# Altium integrated library Lattice Semiconductor ispMACH 4000B.IntLib: 180 symbols (part 1 of 28)
Pins are listed as number, name and electrical type; pins without a type are passive.

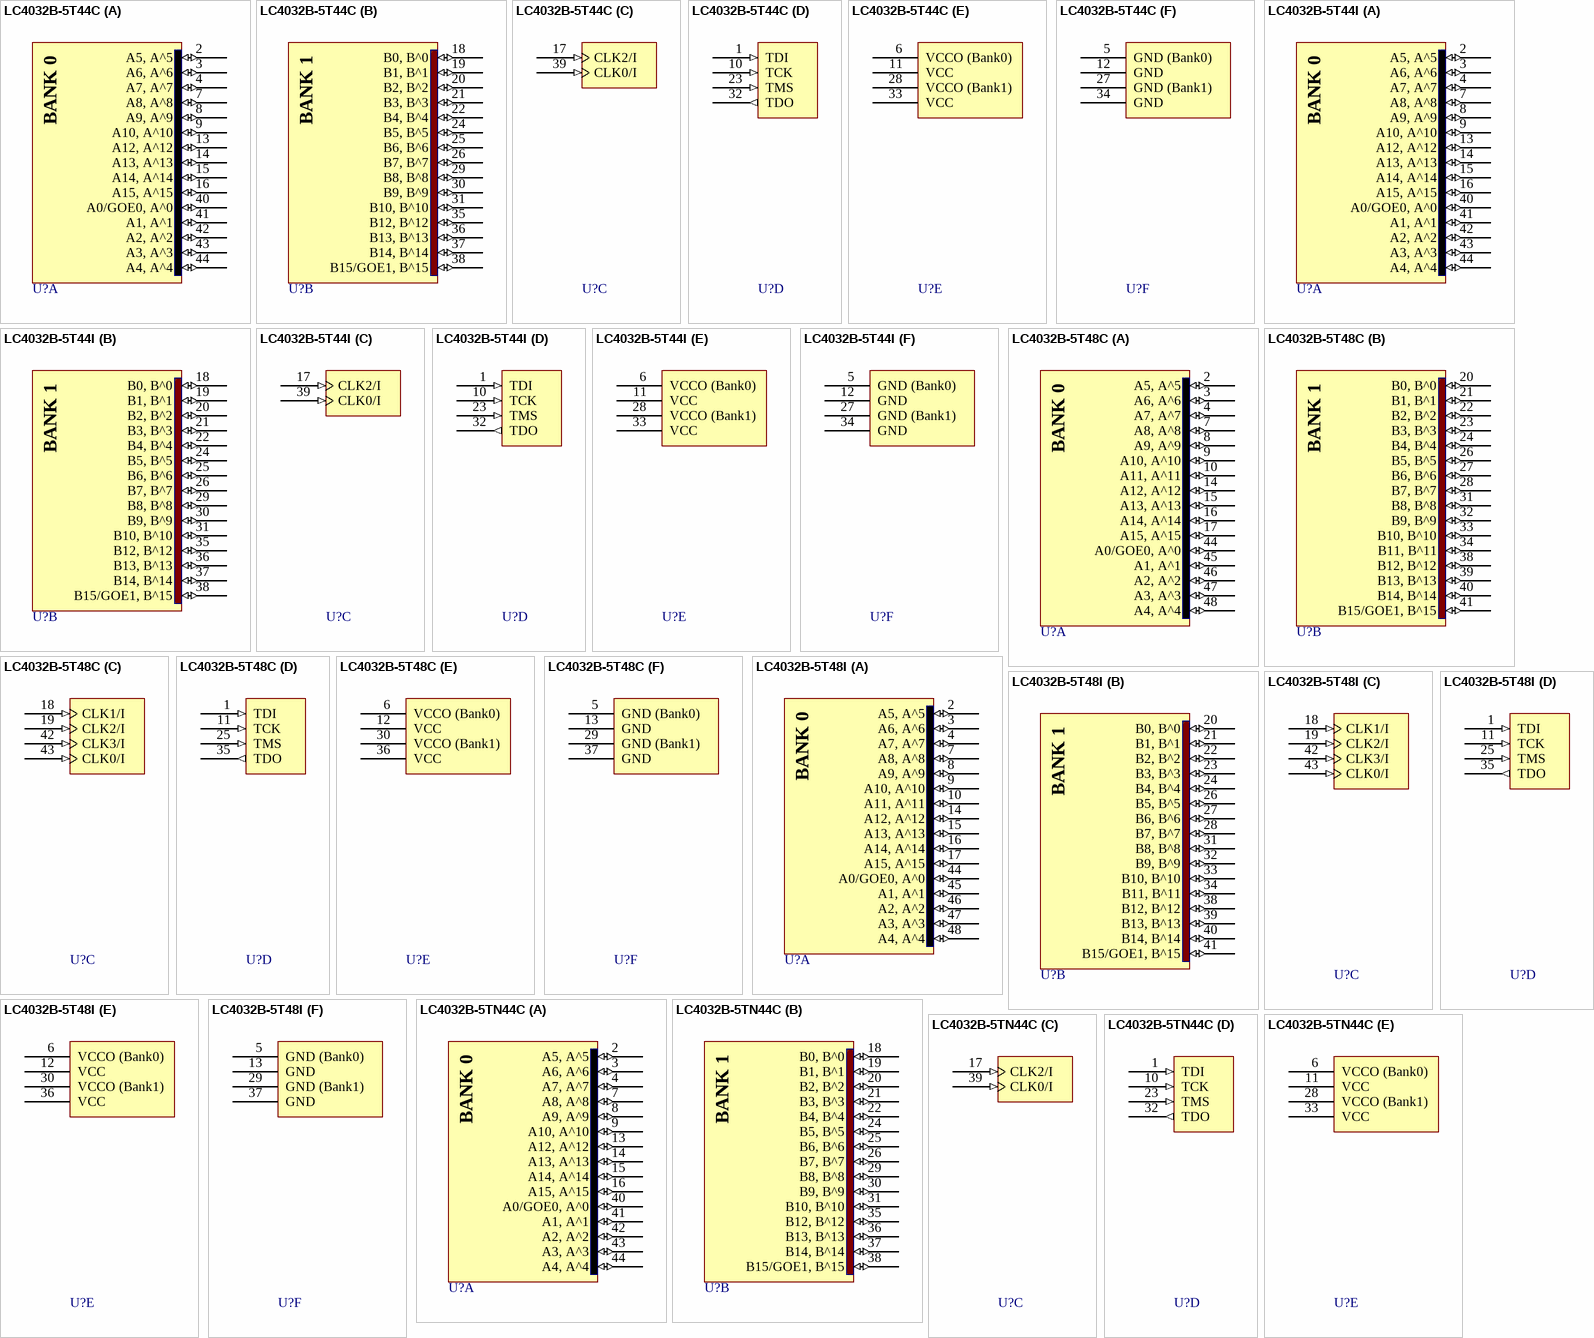
[diagram p0: symbols LC4032B-5T44C to LC4032B-5TN44C]

## LC4032B-5T44C
designator U?
ispMACH 4032 SuperFAST High Density PLD, 2.5 V, 30 User I/Os, 44-Pin TQFP, 5.0 ns, Commercial Grade; DatasheetVersion: ver22.3, Mar-2007; PackageVersion: ver01.2 Feb-2007; PackageReference: TQFP44(1mm); PackageDescription: 44-Pin Thin Quad Flat Pack 1.0 mm Thick (TQFP44); ComponentLink1Description: Manufacturer URL; ComponentLink1URL: http://www.latticesemi.com/; ComponentLink2Description: Datasheet; ComponentLink2URL: http://www.latticesemi.com/dynamic/view_document.cfm?document_id=3646
footprint TQFP44(1mm)_N (Thin QFP, 44-Leads, Body 10x10mm, Pitch 0.8mm, IPC Medium Density)
footprint TQFP44(1mm)_L (Thin QFP, 44-Leads, Body 10x10mm, Pitch 0.8mm, IPC High Density)
footprint TQFP44(1mm)_M (Thin QFP, 44-Leads, Body 10x10mm, Pitch 0.8mm, IPC Low Density)
part A pins: 2 A5, A^5 (io) "General purpose I/O.", 3 A6, A^6 (io) "General purpose I/O.", 4 A7, A^7 (io) "General purpose I/O.", 7 A8, A^8 (io) "General purpose I/O.", 8 A9, A^9 (io) "General purpose I/O.", 9 A10, A^10 (io) "General purpose I/O.", 13 A12, A^12 (io) "General purpose I/O.", 14 A13, A^13 (io) "General purpose I/O.", 15 A14, A^14 (io) "General purpose I/O.", 16 A15, A^15 (io) "General purpose I/O.", 40 A0/GOE0, A^0 (io) "Either Global Output Enable Input or general I/O.", 41 A1, A^1 (io) "General purpose I/O.", 42 A2, A^2 (io) "General purpose I/O.", 43 A3, A^3 (io) "General purpose I/O.", 44 A4, A^4 (io) "General purpose I/O."
part B pins: 18 B0, B^0 (io) "General purpose I/O.", 19 B1, B^1 (io) "General purpose I/O.", 20 B2, B^2 (io) "General purpose I/O.", 21 B3, B^3 (io) "General purpose I/O.", 22 B4, B^4 (io) "General purpose I/O.", 24 B5, B^5 (io) "General purpose I/O.", 25 B6, B^6 (io) "General purpose I/O.", 26 B7, B^7 (io) "General purpose I/O.", 29 B8, B^8 (io) "General purpose I/O.", 30 B9, B^9 (io) "General purpose I/O.", 31 B10, B^10 (io) "General purpose I/O.", 35 B12, B^12 (io) "General purpose I/O.", 36 B13, B^13 (io) "General purpose I/O.", 37 B14, B^14 (io) "General purpose I/O.", 38 B15/GOE1, B^15 (io) "Either Global Output Enable Input or general I/O."
part C pins: 17 CLK2/I (in) "Either CLK input or input.", 39 CLK0/I (in) "Either CLK input or input."
part D pins: 1 TDI (in) "Test Data Input. Loads data into device using 1149.1 state machine.", 10 TCK (in) "Test Clock Input for 1149.1 state machine.", 23 TMS (in) "Test Mode Select Input to control 1149.1 state machine.", 32 TDO (out) "Test Data Output. Shifts data out of device using 1149.1."
part E pins: 6 VCCO (Bank0) (power) "Power supply pin for I/O bank.", 11 VCC (power) "Power supply for logic core and JTAG port.", 28 VCCO (Bank1) (power) "Power supply pin for I/O bank.", 33 VCC (power) "Power supply for logic core and JTAG port."
part F pins: 5 GND (Bank0) (power) "I/O Ground", 12 GND (power) "Ground", 27 GND (Bank1) (power) "I/O Ground", 34 GND (power) "Ground"
part A text: BANK 0
part B text: BANK 1

## LC4032B-5T44I
designator U?
ispMACH 4032 SuperFAST High Density PLD, 2.5 V, 30 User I/Os, 44-Pin TQFP, 5.0 ns, Industrial Grade; DatasheetVersion: ver22.3, Mar-2007; PackageVersion: ver01.2 Feb-2007; PackageReference: TQFP44(1mm); PackageDescription: 44-Pin Thin Quad Flat Pack 1.0 mm Thick (TQFP44); ComponentLink1Description: Manufacturer URL; ComponentLink1URL: http://www.latticesemi.com/; ComponentLink2Description: Datasheet; ComponentLink2URL: http://www.latticesemi.com/dynamic/view_document.cfm?document_id=3646
footprint TQFP44(1mm)_N (Thin QFP, 44-Leads, Body 10x10mm, Pitch 0.8mm, IPC Medium Density)
footprint TQFP44(1mm)_L (Thin QFP, 44-Leads, Body 10x10mm, Pitch 0.8mm, IPC High Density)
footprint TQFP44(1mm)_M (Thin QFP, 44-Leads, Body 10x10mm, Pitch 0.8mm, IPC Low Density)
part A pins: 2 A5, A^5 (io) "General purpose I/O.", 3 A6, A^6 (io) "General purpose I/O.", 4 A7, A^7 (io) "General purpose I/O.", 7 A8, A^8 (io) "General purpose I/O.", 8 A9, A^9 (io) "General purpose I/O.", 9 A10, A^10 (io) "General purpose I/O.", 13 A12, A^12 (io) "General purpose I/O.", 14 A13, A^13 (io) "General purpose I/O.", 15 A14, A^14 (io) "General purpose I/O.", 16 A15, A^15 (io) "General purpose I/O.", 40 A0/GOE0, A^0 (io) "Either Global Output Enable Input or general I/O.", 41 A1, A^1 (io) "General purpose I/O.", 42 A2, A^2 (io) "General purpose I/O.", 43 A3, A^3 (io) "General purpose I/O.", 44 A4, A^4 (io) "General purpose I/O."
part B pins: 18 B0, B^0 (io) "General purpose I/O.", 19 B1, B^1 (io) "General purpose I/O.", 20 B2, B^2 (io) "General purpose I/O.", 21 B3, B^3 (io) "General purpose I/O.", 22 B4, B^4 (io) "General purpose I/O.", 24 B5, B^5 (io) "General purpose I/O.", 25 B6, B^6 (io) "General purpose I/O.", 26 B7, B^7 (io) "General purpose I/O.", 29 B8, B^8 (io) "General purpose I/O.", 30 B9, B^9 (io) "General purpose I/O.", 31 B10, B^10 (io) "General purpose I/O.", 35 B12, B^12 (io) "General purpose I/O.", 36 B13, B^13 (io) "General purpose I/O.", 37 B14, B^14 (io) "General purpose I/O.", 38 B15/GOE1, B^15 (io) "Either Global Output Enable Input or general I/O."
part C pins: 17 CLK2/I (in) "Either CLK input or input.", 39 CLK0/I (in) "Either CLK input or input."
part D pins: 1 TDI (in) "Test Data Input. Loads data into device using 1149.1 state machine.", 10 TCK (in) "Test Clock Input for 1149.1 state machine.", 23 TMS (in) "Test Mode Select Input to control 1149.1 state machine.", 32 TDO (out) "Test Data Output. Shifts data out of device using 1149.1."
part E pins: 6 VCCO (Bank0) (power) "Power supply pin for I/O bank.", 11 VCC (power) "Power supply for logic core and JTAG port.", 28 VCCO (Bank1) (power) "Power supply pin for I/O bank.", 33 VCC (power) "Power supply for logic core and JTAG port."
part F pins: 5 GND (Bank0) (power) "I/O Ground", 12 GND (power) "Ground", 27 GND (Bank1) (power) "I/O Ground", 34 GND (power) "Ground"
part A text: BANK 0
part B text: BANK 1

## LC4032B-5T48C
designator U?
ispMACH 4032 SuperFAST High Density PLD, 2.5 V, 32 User I/Os, 48-Pin TQFP, 5.0 ns, Commercial Grade; DatasheetVersion: ver22.3, Mar-2007; PackageVersion: ver02.6, Nov-2010; PackageReference: TQFP48(1mm); PackageDescription: 48-Pin Thin Quad Flat Pack 1.0 mm Thick (TQFP48); ComponentLink1Description: Manufacturer URL; ComponentLink1URL: http://www.latticesemi.com/; ComponentLink2Description: Datasheet; ComponentLink2URL: http://www.latticesemi.com/dynamic/view_document.cfm?document_id=3646
footprint TQFP48(1mm)_N (Thin QFP, 48-Leads, Body 7x7mm, Pitch 0.5mm, IPC Medium Density)
footprint TQFP48(1mm)_L (Thin QFP, 48-Leads, Body 7x7mm, Pitch 0.5mm, IPC High Density)
footprint TQFP48(1mm)_M (Thin QFP, 48-Leads, Body 7x7mm, Pitch 0.5mm, IPC Low Density)
part A pins: 2 A5, A^5 (io) "General purpose I/O.", 3 A6, A^6 (io) "General purpose I/O.", 4 A7, A^7 (io) "General purpose I/O.", 7 A8, A^8 (io) "General purpose I/O.", 8 A9, A^9 (io) "General purpose I/O.", 9 A10, A^10 (io) "General purpose I/O.", 10 A11, A^11 (io) "General purpose I/O.", 14 A12, A^12 (io) "General purpose I/O.", 15 A13, A^13 (io) "General purpose I/O.", 16 A14, A^14 (io) "General purpose I/O.", 17 A15, A^15 (io) "General purpose I/O.", 44 A0/GOE0, A^0 (io) "Either Global Output Enable Input or general I/O.", 45 A1, A^1 (io) "General purpose I/O.", 46 A2, A^2 (io) "General purpose I/O.", 47 A3, A^3 (io) "General purpose I/O.", 48 A4, A^4 (io) "General purpose I/O."
part B pins: 20 B0, B^0 (io) "General purpose I/O.", 21 B1, B^1 (io) "General purpose I/O.", 22 B2, B^2 (io) "General purpose I/O.", 23 B3, B^3 (io) "General purpose I/O.", 24 B4, B^4 (io) "General purpose I/O.", 26 B5, B^5 (io) "General purpose I/O.", 27 B6, B^6 (io) "General purpose I/O.", 28 B7, B^7 (io) "General purpose I/O.", 31 B8, B^8 (io) "General purpose I/O.", 32 B9, B^9 (io) "General purpose I/O.", 33 B10, B^10 (io) "General purpose I/O.", 34 B11, B^11 (io) "General purpose I/O.", 38 B12, B^12 (io) "General purpose I/O.", 39 B13, B^13 (io) "General purpose I/O.", 40 B14, B^14 (io) "General purpose I/O.", 41 B15/GOE1, B^15 (io) "Either Global Output Enable Input or general I/O."
part C pins: 18 CLK1/I (in) "Either CLK input or input.", 19 CLK2/I (in) "Either CLK input or input.", 42 CLK3/I (in) "Either CLK input or input.", 43 CLK0/I (in) "Either CLK input or input."
part D pins: 1 TDI (in) "Test Data Input. Loads data into device using 1149.1 state machine.", 11 TCK (in) "Test Clock Input for 1149.1 state machine.", 25 TMS (in) "Test Mode Select Input to control 1149.1 state machine.", 35 TDO (out) "Test Data Output. Shifts data out of device using 1149.1."
part E pins: 6 VCCO (Bank0) (power) "Power supply pin for I/O bank.", 12 VCC (power) "Power supply for logic core and JTAG port.", 30 VCCO (Bank1) (power) "Power supply pin for I/O bank.", 36 VCC (power) "Power supply for logic core and JTAG port."
part F pins: 5 GND (Bank0) (power) "I/O Ground", 13 GND (power) "Ground", 29 GND (Bank1) (power) "I/O Ground", 37 GND (power) "Ground"
part A text: BANK 0
part B text: BANK 1

## LC4032B-5T48I
designator U?
ispMACH 4032 SuperFAST High Density PLD, 2.5 V, 32 User I/Os, 48-Pin TQFP, 5.0 ns, Industrial Grade; DatasheetVersion: ver22.3, Mar-2007; PackageVersion: ver02.6, Nov-2010; PackageReference: TQFP48(1mm); PackageDescription: 48-Pin Thin Quad Flat Pack 1.0 mm Thick (TQFP48); ComponentLink1Description: Manufacturer URL; ComponentLink1URL: http://www.latticesemi.com/; ComponentLink2Description: Datasheet; ComponentLink2URL: http://www.latticesemi.com/dynamic/view_document.cfm?document_id=3646
footprint TQFP48(1mm)_N (Thin QFP, 48-Leads, Body 7x7mm, Pitch 0.5mm, IPC Medium Density)
footprint TQFP48(1mm)_L (Thin QFP, 48-Leads, Body 7x7mm, Pitch 0.5mm, IPC High Density)
footprint TQFP48(1mm)_M (Thin QFP, 48-Leads, Body 7x7mm, Pitch 0.5mm, IPC Low Density)
part A pins: 2 A5, A^5 (io) "General purpose I/O.", 3 A6, A^6 (io) "General purpose I/O.", 4 A7, A^7 (io) "General purpose I/O.", 7 A8, A^8 (io) "General purpose I/O.", 8 A9, A^9 (io) "General purpose I/O.", 9 A10, A^10 (io) "General purpose I/O.", 10 A11, A^11 (io) "General purpose I/O.", 14 A12, A^12 (io) "General purpose I/O.", 15 A13, A^13 (io) "General purpose I/O.", 16 A14, A^14 (io) "General purpose I/O.", 17 A15, A^15 (io) "General purpose I/O.", 44 A0/GOE0, A^0 (io) "Either Global Output Enable Input or general I/O.", 45 A1, A^1 (io) "General purpose I/O.", 46 A2, A^2 (io) "General purpose I/O.", 47 A3, A^3 (io) "General purpose I/O.", 48 A4, A^4 (io) "General purpose I/O."
part B pins: 20 B0, B^0 (io) "General purpose I/O.", 21 B1, B^1 (io) "General purpose I/O.", 22 B2, B^2 (io) "General purpose I/O.", 23 B3, B^3 (io) "General purpose I/O.", 24 B4, B^4 (io) "General purpose I/O.", 26 B5, B^5 (io) "General purpose I/O.", 27 B6, B^6 (io) "General purpose I/O.", 28 B7, B^7 (io) "General purpose I/O.", 31 B8, B^8 (io) "General purpose I/O.", 32 B9, B^9 (io) "General purpose I/O.", 33 B10, B^10 (io) "General purpose I/O.", 34 B11, B^11 (io) "General purpose I/O.", 38 B12, B^12 (io) "General purpose I/O.", 39 B13, B^13 (io) "General purpose I/O.", 40 B14, B^14 (io) "General purpose I/O.", 41 B15/GOE1, B^15 (io) "Either Global Output Enable Input or general I/O."
part C pins: 18 CLK1/I (in) "Either CLK input or input.", 19 CLK2/I (in) "Either CLK input or input.", 42 CLK3/I (in) "Either CLK input or input.", 43 CLK0/I (in) "Either CLK input or input."
part D pins: 1 TDI (in) "Test Data Input. Loads data into device using 1149.1 state machine.", 11 TCK (in) "Test Clock Input for 1149.1 state machine.", 25 TMS (in) "Test Mode Select Input to control 1149.1 state machine.", 35 TDO (out) "Test Data Output. Shifts data out of device using 1149.1."
part E pins: 6 VCCO (Bank0) (power) "Power supply pin for I/O bank.", 12 VCC (power) "Power supply for logic core and JTAG port.", 30 VCCO (Bank1) (power) "Power supply pin for I/O bank.", 36 VCC (power) "Power supply for logic core and JTAG port."
part F pins: 5 GND (Bank0) (power) "I/O Ground", 13 GND (power) "Ground", 29 GND (Bank1) (power) "I/O Ground", 37 GND (power) "Ground"
part A text: BANK 0
part B text: BANK 1

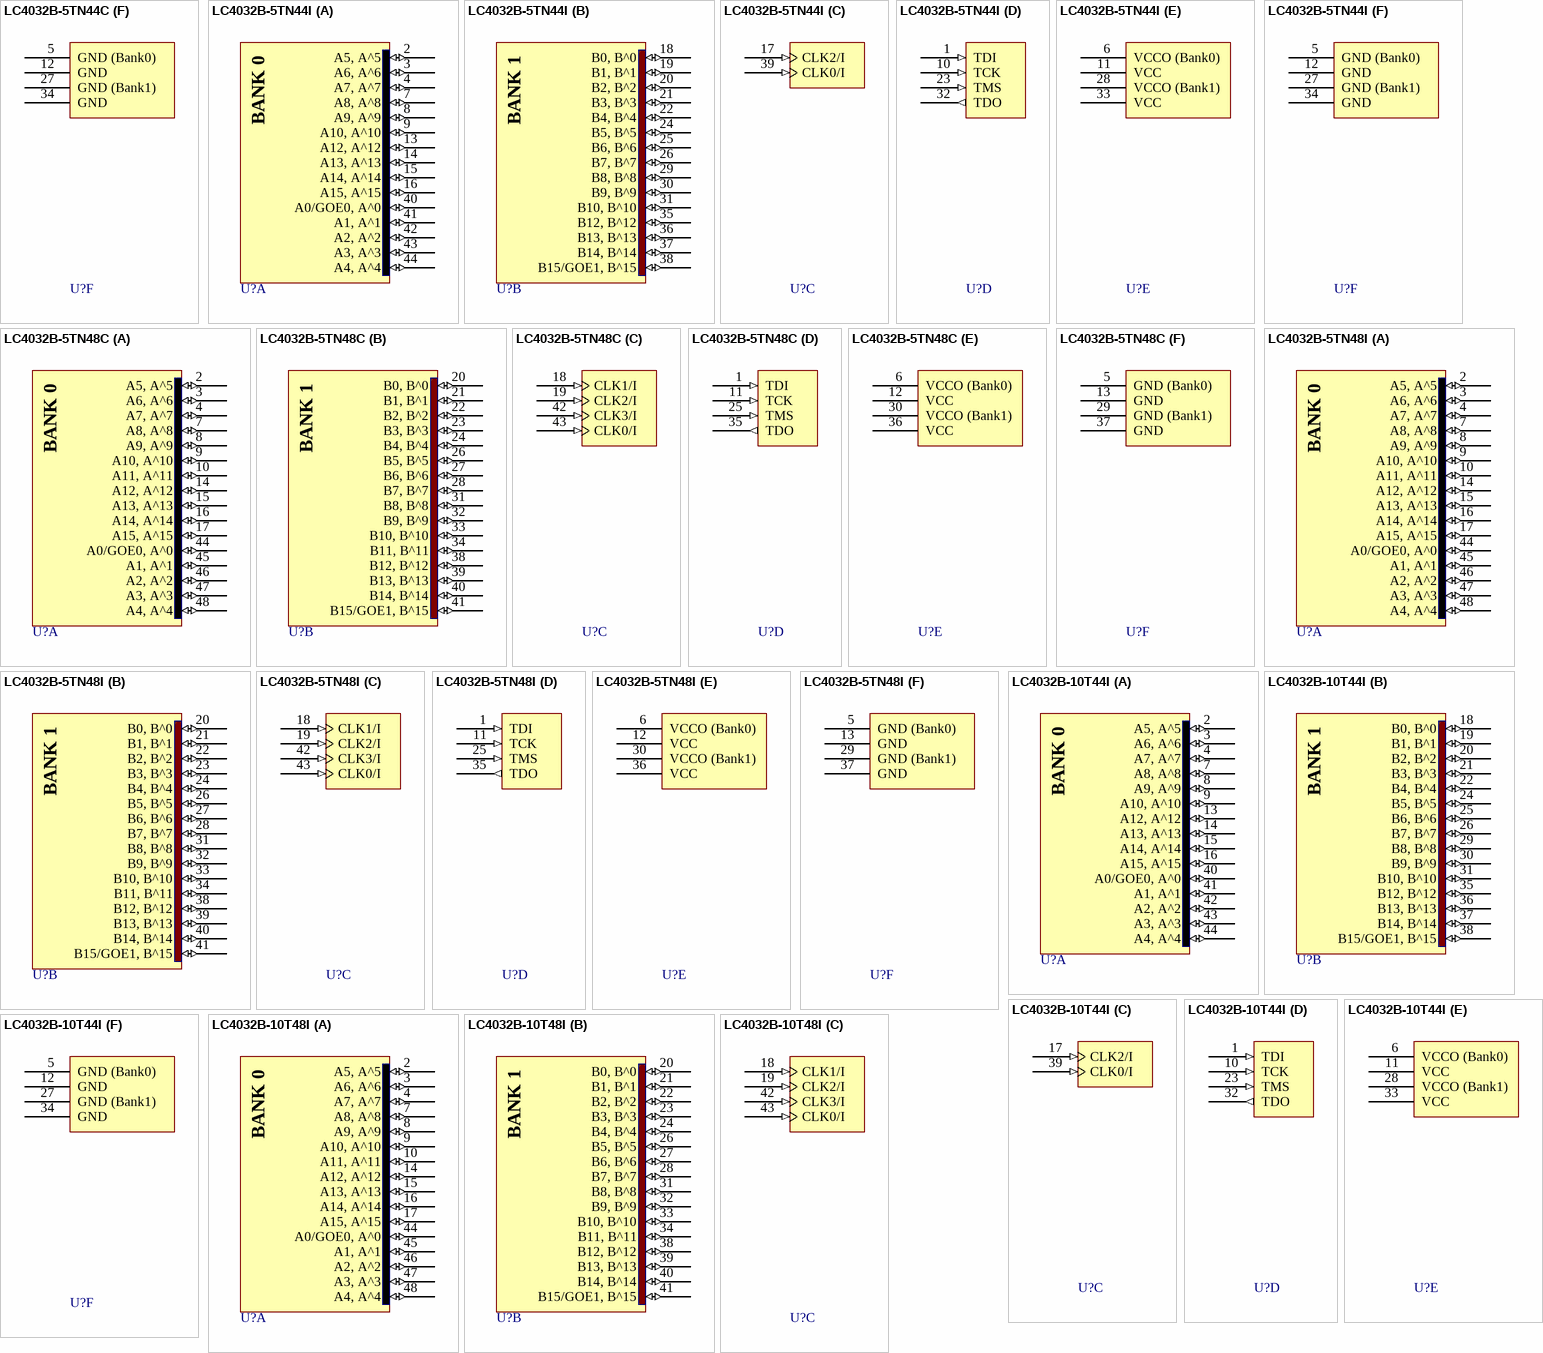
[diagram p1: symbols LC4032B-5TN44C to LC4032B-10T48I]

## LC4032B-5TN44C
designator U?
ispMACH 4032 SuperFAST High Density PLD, 2.5 V, 30 User I/Os, 44-Pin TQFP, 5.0 ns, Commercial Grade, Pb-Free; DatasheetVersion: ver22.3, Mar-2007; PackageVersion: ver01.2 Feb-2007; PackageReference: TQFP44(1mm); PackageDescription: 44-Pin Thin Quad Flat Pack 1.0 mm Thick (TQFP44); ComponentLink1Description: Manufacturer URL; ComponentLink1URL: http://www.latticesemi.com/; ComponentLink2Description: Datasheet; ComponentLink2URL: http://www.latticesemi.com/dynamic/view_document.cfm?document_id=3646
footprint TQFP44(1mm)_N (Thin QFP, 44-Leads, Body 10x10mm, Pitch 0.8mm, IPC Medium Density)
footprint TQFP44(1mm)_L (Thin QFP, 44-Leads, Body 10x10mm, Pitch 0.8mm, IPC High Density)
footprint TQFP44(1mm)_M (Thin QFP, 44-Leads, Body 10x10mm, Pitch 0.8mm, IPC Low Density)
part A pins: 2 A5, A^5 (io) "General purpose I/O.", 3 A6, A^6 (io) "General purpose I/O.", 4 A7, A^7 (io) "General purpose I/O.", 7 A8, A^8 (io) "General purpose I/O.", 8 A9, A^9 (io) "General purpose I/O.", 9 A10, A^10 (io) "General purpose I/O.", 13 A12, A^12 (io) "General purpose I/O.", 14 A13, A^13 (io) "General purpose I/O.", 15 A14, A^14 (io) "General purpose I/O.", 16 A15, A^15 (io) "General purpose I/O.", 40 A0/GOE0, A^0 (io) "Either Global Output Enable Input or general I/O.", 41 A1, A^1 (io) "General purpose I/O.", 42 A2, A^2 (io) "General purpose I/O.", 43 A3, A^3 (io) "General purpose I/O.", 44 A4, A^4 (io) "General purpose I/O."
part B pins: 18 B0, B^0 (io) "General purpose I/O.", 19 B1, B^1 (io) "General purpose I/O.", 20 B2, B^2 (io) "General purpose I/O.", 21 B3, B^3 (io) "General purpose I/O.", 22 B4, B^4 (io) "General purpose I/O.", 24 B5, B^5 (io) "General purpose I/O.", 25 B6, B^6 (io) "General purpose I/O.", 26 B7, B^7 (io) "General purpose I/O.", 29 B8, B^8 (io) "General purpose I/O.", 30 B9, B^9 (io) "General purpose I/O.", 31 B10, B^10 (io) "General purpose I/O.", 35 B12, B^12 (io) "General purpose I/O.", 36 B13, B^13 (io) "General purpose I/O.", 37 B14, B^14 (io) "General purpose I/O.", 38 B15/GOE1, B^15 (io) "Either Global Output Enable Input or general I/O."
part C pins: 17 CLK2/I (in) "Either CLK input or input.", 39 CLK0/I (in) "Either CLK input or input."
part D pins: 1 TDI (in) "Test Data Input. Loads data into device using 1149.1 state machine.", 10 TCK (in) "Test Clock Input for 1149.1 state machine.", 23 TMS (in) "Test Mode Select Input to control 1149.1 state machine.", 32 TDO (out) "Test Data Output. Shifts data out of device using 1149.1."
part E pins: 6 VCCO (Bank0) (power) "Power supply pin for I/O bank.", 11 VCC (power) "Power supply for logic core and JTAG port.", 28 VCCO (Bank1) (power) "Power supply pin for I/O bank.", 33 VCC (power) "Power supply for logic core and JTAG port."
part F pins: 5 GND (Bank0) (power) "I/O Ground", 12 GND (power) "Ground", 27 GND (Bank1) (power) "I/O Ground", 34 GND (power) "Ground"
part A text: BANK 0
part B text: BANK 1

## LC4032B-5TN44I
designator U?
ispMACH 4032 SuperFAST High Density PLD, 2.5 V, 30 User I/Os, 44-Pin TQFP, 2.5 ns, Industrial Grade, Pb-Free; DatasheetVersion: ver22.3, Mar-2007; PackageVersion: ver01.2 Feb-2007; PackageReference: TQFP44(1mm); PackageDescription: 44-Pin Thin Quad Flat Pack 1.0 mm Thick (TQFP44); ComponentLink1Description: Manufacturer URL; ComponentLink1URL: http://www.latticesemi.com/; ComponentLink2Description: Datasheet; ComponentLink2URL: http://www.latticesemi.com/dynamic/view_document.cfm?document_id=3646
footprint TQFP44(1mm)_N (Thin QFP, 44-Leads, Body 10x10mm, Pitch 0.8mm, IPC Medium Density)
footprint TQFP44(1mm)_L (Thin QFP, 44-Leads, Body 10x10mm, Pitch 0.8mm, IPC High Density)
footprint TQFP44(1mm)_M (Thin QFP, 44-Leads, Body 10x10mm, Pitch 0.8mm, IPC Low Density)
part A pins: 2 A5, A^5 (io) "General purpose I/O.", 3 A6, A^6 (io) "General purpose I/O.", 4 A7, A^7 (io) "General purpose I/O.", 7 A8, A^8 (io) "General purpose I/O.", 8 A9, A^9 (io) "General purpose I/O.", 9 A10, A^10 (io) "General purpose I/O.", 13 A12, A^12 (io) "General purpose I/O.", 14 A13, A^13 (io) "General purpose I/O.", 15 A14, A^14 (io) "General purpose I/O.", 16 A15, A^15 (io) "General purpose I/O.", 40 A0/GOE0, A^0 (io) "Either Global Output Enable Input or general I/O.", 41 A1, A^1 (io) "General purpose I/O.", 42 A2, A^2 (io) "General purpose I/O.", 43 A3, A^3 (io) "General purpose I/O.", 44 A4, A^4 (io) "General purpose I/O."
part B pins: 18 B0, B^0 (io) "General purpose I/O.", 19 B1, B^1 (io) "General purpose I/O.", 20 B2, B^2 (io) "General purpose I/O.", 21 B3, B^3 (io) "General purpose I/O.", 22 B4, B^4 (io) "General purpose I/O.", 24 B5, B^5 (io) "General purpose I/O.", 25 B6, B^6 (io) "General purpose I/O.", 26 B7, B^7 (io) "General purpose I/O.", 29 B8, B^8 (io) "General purpose I/O.", 30 B9, B^9 (io) "General purpose I/O.", 31 B10, B^10 (io) "General purpose I/O.", 35 B12, B^12 (io) "General purpose I/O.", 36 B13, B^13 (io) "General purpose I/O.", 37 B14, B^14 (io) "General purpose I/O.", 38 B15/GOE1, B^15 (io) "Either Global Output Enable Input or general I/O."
part C pins: 17 CLK2/I (in) "Either CLK input or input.", 39 CLK0/I (in) "Either CLK input or input."
part D pins: 1 TDI (in) "Test Data Input. Loads data into device using 1149.1 state machine.", 10 TCK (in) "Test Clock Input for 1149.1 state machine.", 23 TMS (in) "Test Mode Select Input to control 1149.1 state machine.", 32 TDO (out) "Test Data Output. Shifts data out of device using 1149.1."
part E pins: 6 VCCO (Bank0) (power) "Power supply pin for I/O bank.", 11 VCC (power) "Power supply for logic core and JTAG port.", 28 VCCO (Bank1) (power) "Power supply pin for I/O bank.", 33 VCC (power) "Power supply for logic core and JTAG port."
part F pins: 5 GND (Bank0) (power) "I/O Ground", 12 GND (power) "Ground", 27 GND (Bank1) (power) "I/O Ground", 34 GND (power) "Ground"
part A text: BANK 0
part B text: BANK 1

## LC4032B-5TN48C
designator U?
ispMACH 4032 SuperFAST High Density PLD, 2.5 V, 32 User I/Os, 48-Pin TQFP, 5.0 ns, Commercial Grade, Pb-Free; DatasheetVersion: ver22.3, Mar-2007; PackageVersion: ver02.6, Nov-2010; PackageReference: TQFP48(1mm); PackageDescription: 48-Pin Thin Quad Flat Pack 1.0 mm Thick (TQFP48); ComponentLink1Description: Manufacturer URL; ComponentLink1URL: http://www.latticesemi.com/; ComponentLink2Description: Datasheet; ComponentLink2URL: http://www.latticesemi.com/dynamic/view_document.cfm?document_id=3646
footprint TQFP48(1mm)_N (Thin QFP, 48-Leads, Body 7x7mm, Pitch 0.5mm, IPC Medium Density)
footprint TQFP48(1mm)_L (Thin QFP, 48-Leads, Body 7x7mm, Pitch 0.5mm, IPC High Density)
footprint TQFP48(1mm)_M (Thin QFP, 48-Leads, Body 7x7mm, Pitch 0.5mm, IPC Low Density)
part A pins: 2 A5, A^5 (io) "General purpose I/O.", 3 A6, A^6 (io) "General purpose I/O.", 4 A7, A^7 (io) "General purpose I/O.", 7 A8, A^8 (io) "General purpose I/O.", 8 A9, A^9 (io) "General purpose I/O.", 9 A10, A^10 (io) "General purpose I/O.", 10 A11, A^11 (io) "General purpose I/O.", 14 A12, A^12 (io) "General purpose I/O.", 15 A13, A^13 (io) "General purpose I/O.", 16 A14, A^14 (io) "General purpose I/O.", 17 A15, A^15 (io) "General purpose I/O.", 44 A0/GOE0, A^0 (io) "Either Global Output Enable Input or general I/O.", 45 A1, A^1 (io) "General purpose I/O.", 46 A2, A^2 (io) "General purpose I/O.", 47 A3, A^3 (io) "General purpose I/O.", 48 A4, A^4 (io) "General purpose I/O."
part B pins: 20 B0, B^0 (io) "General purpose I/O.", 21 B1, B^1 (io) "General purpose I/O.", 22 B2, B^2 (io) "General purpose I/O.", 23 B3, B^3 (io) "General purpose I/O.", 24 B4, B^4 (io) "General purpose I/O.", 26 B5, B^5 (io) "General purpose I/O.", 27 B6, B^6 (io) "General purpose I/O.", 28 B7, B^7 (io) "General purpose I/O.", 31 B8, B^8 (io) "General purpose I/O.", 32 B9, B^9 (io) "General purpose I/O.", 33 B10, B^10 (io) "General purpose I/O.", 34 B11, B^11 (io) "General purpose I/O.", 38 B12, B^12 (io) "General purpose I/O.", 39 B13, B^13 (io) "General purpose I/O.", 40 B14, B^14 (io) "General purpose I/O.", 41 B15/GOE1, B^15 (io) "Either Global Output Enable Input or general I/O."
part C pins: 18 CLK1/I (in) "Either CLK input or input.", 19 CLK2/I (in) "Either CLK input or input.", 42 CLK3/I (in) "Either CLK input or input.", 43 CLK0/I (in) "Either CLK input or input."
part D pins: 1 TDI (in) "Test Data Input. Loads data into device using 1149.1 state machine.", 11 TCK (in) "Test Clock Input for 1149.1 state machine.", 25 TMS (in) "Test Mode Select Input to control 1149.1 state machine.", 35 TDO (out) "Test Data Output. Shifts data out of device using 1149.1."
part E pins: 6 VCCO (Bank0) (power) "Power supply pin for I/O bank.", 12 VCC (power) "Power supply for logic core and JTAG port.", 30 VCCO (Bank1) (power) "Power supply pin for I/O bank.", 36 VCC (power) "Power supply for logic core and JTAG port."
part F pins: 5 GND (Bank0) (power) "I/O Ground", 13 GND (power) "Ground", 29 GND (Bank1) (power) "I/O Ground", 37 GND (power) "Ground"
part A text: BANK 0
part B text: BANK 1

## LC4032B-5TN48I
designator U?
ispMACH 4032 SuperFAST High Density PLD, 2.5 V, 32 User I/Os, 48-Pin TQFP, 5.0 ns, Industrial Grade, Pb-Free; DatasheetVersion: ver22.3, Mar-2007; PackageVersion: ver02.6, Nov-2010; PackageReference: TQFP48(1mm); PackageDescription: 48-Pin Thin Quad Flat Pack 1.0 mm Thick (TQFP48); ComponentLink1Description: Manufacturer URL; ComponentLink1URL: http://www.latticesemi.com/; ComponentLink2Description: Datasheet; ComponentLink2URL: http://www.latticesemi.com/dynamic/view_document.cfm?document_id=3646
footprint TQFP48(1mm)_N (Thin QFP, 48-Leads, Body 7x7mm, Pitch 0.5mm, IPC Medium Density)
footprint TQFP48(1mm)_L (Thin QFP, 48-Leads, Body 7x7mm, Pitch 0.5mm, IPC High Density)
footprint TQFP48(1mm)_M (Thin QFP, 48-Leads, Body 7x7mm, Pitch 0.5mm, IPC Low Density)
part A pins: 2 A5, A^5 (io) "General purpose I/O.", 3 A6, A^6 (io) "General purpose I/O.", 4 A7, A^7 (io) "General purpose I/O.", 7 A8, A^8 (io) "General purpose I/O.", 8 A9, A^9 (io) "General purpose I/O.", 9 A10, A^10 (io) "General purpose I/O.", 10 A11, A^11 (io) "General purpose I/O.", 14 A12, A^12 (io) "General purpose I/O.", 15 A13, A^13 (io) "General purpose I/O.", 16 A14, A^14 (io) "General purpose I/O.", 17 A15, A^15 (io) "General purpose I/O.", 44 A0/GOE0, A^0 (io) "Either Global Output Enable Input or general I/O.", 45 A1, A^1 (io) "General purpose I/O.", 46 A2, A^2 (io) "General purpose I/O.", 47 A3, A^3 (io) "General purpose I/O.", 48 A4, A^4 (io) "General purpose I/O."
part B pins: 20 B0, B^0 (io) "General purpose I/O.", 21 B1, B^1 (io) "General purpose I/O.", 22 B2, B^2 (io) "General purpose I/O.", 23 B3, B^3 (io) "General purpose I/O.", 24 B4, B^4 (io) "General purpose I/O.", 26 B5, B^5 (io) "General purpose I/O.", 27 B6, B^6 (io) "General purpose I/O.", 28 B7, B^7 (io) "General purpose I/O.", 31 B8, B^8 (io) "General purpose I/O.", 32 B9, B^9 (io) "General purpose I/O.", 33 B10, B^10 (io) "General purpose I/O.", 34 B11, B^11 (io) "General purpose I/O.", 38 B12, B^12 (io) "General purpose I/O.", 39 B13, B^13 (io) "General purpose I/O.", 40 B14, B^14 (io) "General purpose I/O.", 41 B15/GOE1, B^15 (io) "Either Global Output Enable Input or general I/O."
part C pins: 18 CLK1/I (in) "Either CLK input or input.", 19 CLK2/I (in) "Either CLK input or input.", 42 CLK3/I (in) "Either CLK input or input.", 43 CLK0/I (in) "Either CLK input or input."
part D pins: 1 TDI (in) "Test Data Input. Loads data into device using 1149.1 state machine.", 11 TCK (in) "Test Clock Input for 1149.1 state machine.", 25 TMS (in) "Test Mode Select Input to control 1149.1 state machine.", 35 TDO (out) "Test Data Output. Shifts data out of device using 1149.1."
part E pins: 6 VCCO (Bank0) (power) "Power supply pin for I/O bank.", 12 VCC (power) "Power supply for logic core and JTAG port.", 30 VCCO (Bank1) (power) "Power supply pin for I/O bank.", 36 VCC (power) "Power supply for logic core and JTAG port."
part F pins: 5 GND (Bank0) (power) "I/O Ground", 13 GND (power) "Ground", 29 GND (Bank1) (power) "I/O Ground", 37 GND (power) "Ground"
part A text: BANK 0
part B text: BANK 1

## LC4032B-10T44I
designator U?
ispMACH 4032 SuperFAST High Density PLD, 2.5 V, 30 User I/Os, 44-Pin TQFP, 10 ns, Industrial Grade; DatasheetVersion: ver22.3, Mar-2007; PackageVersion: ver01.2 Feb-2007; PackageReference: TQFP44(1mm); PackageDescription: 44-Pin Thin Quad Flat Pack 1.0 mm Thick (TQFP44); ComponentLink1Description: Manufacturer URL; ComponentLink1URL: http://www.latticesemi.com/; ComponentLink2Description: Datasheet; ComponentLink2URL: http://www.latticesemi.com/dynamic/view_document.cfm?document_id=3646
footprint TQFP44(1mm)_N (Thin QFP, 44-Leads, Body 10x10mm, Pitch 0.8mm, IPC Medium Density)
footprint TQFP44(1mm)_L (Thin QFP, 44-Leads, Body 10x10mm, Pitch 0.8mm, IPC High Density)
footprint TQFP44(1mm)_M (Thin QFP, 44-Leads, Body 10x10mm, Pitch 0.8mm, IPC Low Density)
part A pins: 2 A5, A^5 (io) "General purpose I/O.", 3 A6, A^6 (io) "General purpose I/O.", 4 A7, A^7 (io) "General purpose I/O.", 7 A8, A^8 (io) "General purpose I/O.", 8 A9, A^9 (io) "General purpose I/O.", 9 A10, A^10 (io) "General purpose I/O.", 13 A12, A^12 (io) "General purpose I/O.", 14 A13, A^13 (io) "General purpose I/O.", 15 A14, A^14 (io) "General purpose I/O.", 16 A15, A^15 (io) "General purpose I/O.", 40 A0/GOE0, A^0 (io) "Either Global Output Enable Input or general I/O.", 41 A1, A^1 (io) "General purpose I/O.", 42 A2, A^2 (io) "General purpose I/O.", 43 A3, A^3 (io) "General purpose I/O.", 44 A4, A^4 (io) "General purpose I/O."
part B pins: 18 B0, B^0 (io) "General purpose I/O.", 19 B1, B^1 (io) "General purpose I/O.", 20 B2, B^2 (io) "General purpose I/O.", 21 B3, B^3 (io) "General purpose I/O.", 22 B4, B^4 (io) "General purpose I/O.", 24 B5, B^5 (io) "General purpose I/O.", 25 B6, B^6 (io) "General purpose I/O.", 26 B7, B^7 (io) "General purpose I/O.", 29 B8, B^8 (io) "General purpose I/O.", 30 B9, B^9 (io) "General purpose I/O.", 31 B10, B^10 (io) "General purpose I/O.", 35 B12, B^12 (io) "General purpose I/O.", 36 B13, B^13 (io) "General purpose I/O.", 37 B14, B^14 (io) "General purpose I/O.", 38 B15/GOE1, B^15 (io) "Either Global Output Enable Input or general I/O."
part C pins: 17 CLK2/I (in) "Either CLK input or input.", 39 CLK0/I (in) "Either CLK input or input."
part D pins: 1 TDI (in) "Test Data Input. Loads data into device using 1149.1 state machine.", 10 TCK (in) "Test Clock Input for 1149.1 state machine.", 23 TMS (in) "Test Mode Select Input to control 1149.1 state machine.", 32 TDO (out) "Test Data Output. Shifts data out of device using 1149.1."
part E pins: 6 VCCO (Bank0) (power) "Power supply pin for I/O bank.", 11 VCC (power) "Power supply for logic core and JTAG port.", 28 VCCO (Bank1) (power) "Power supply pin for I/O bank.", 33 VCC (power) "Power supply for logic core and JTAG port."
part F pins: 5 GND (Bank0) (power) "I/O Ground", 12 GND (power) "Ground", 27 GND (Bank1) (power) "I/O Ground", 34 GND (power) "Ground"
part A text: BANK 0
part B text: BANK 1

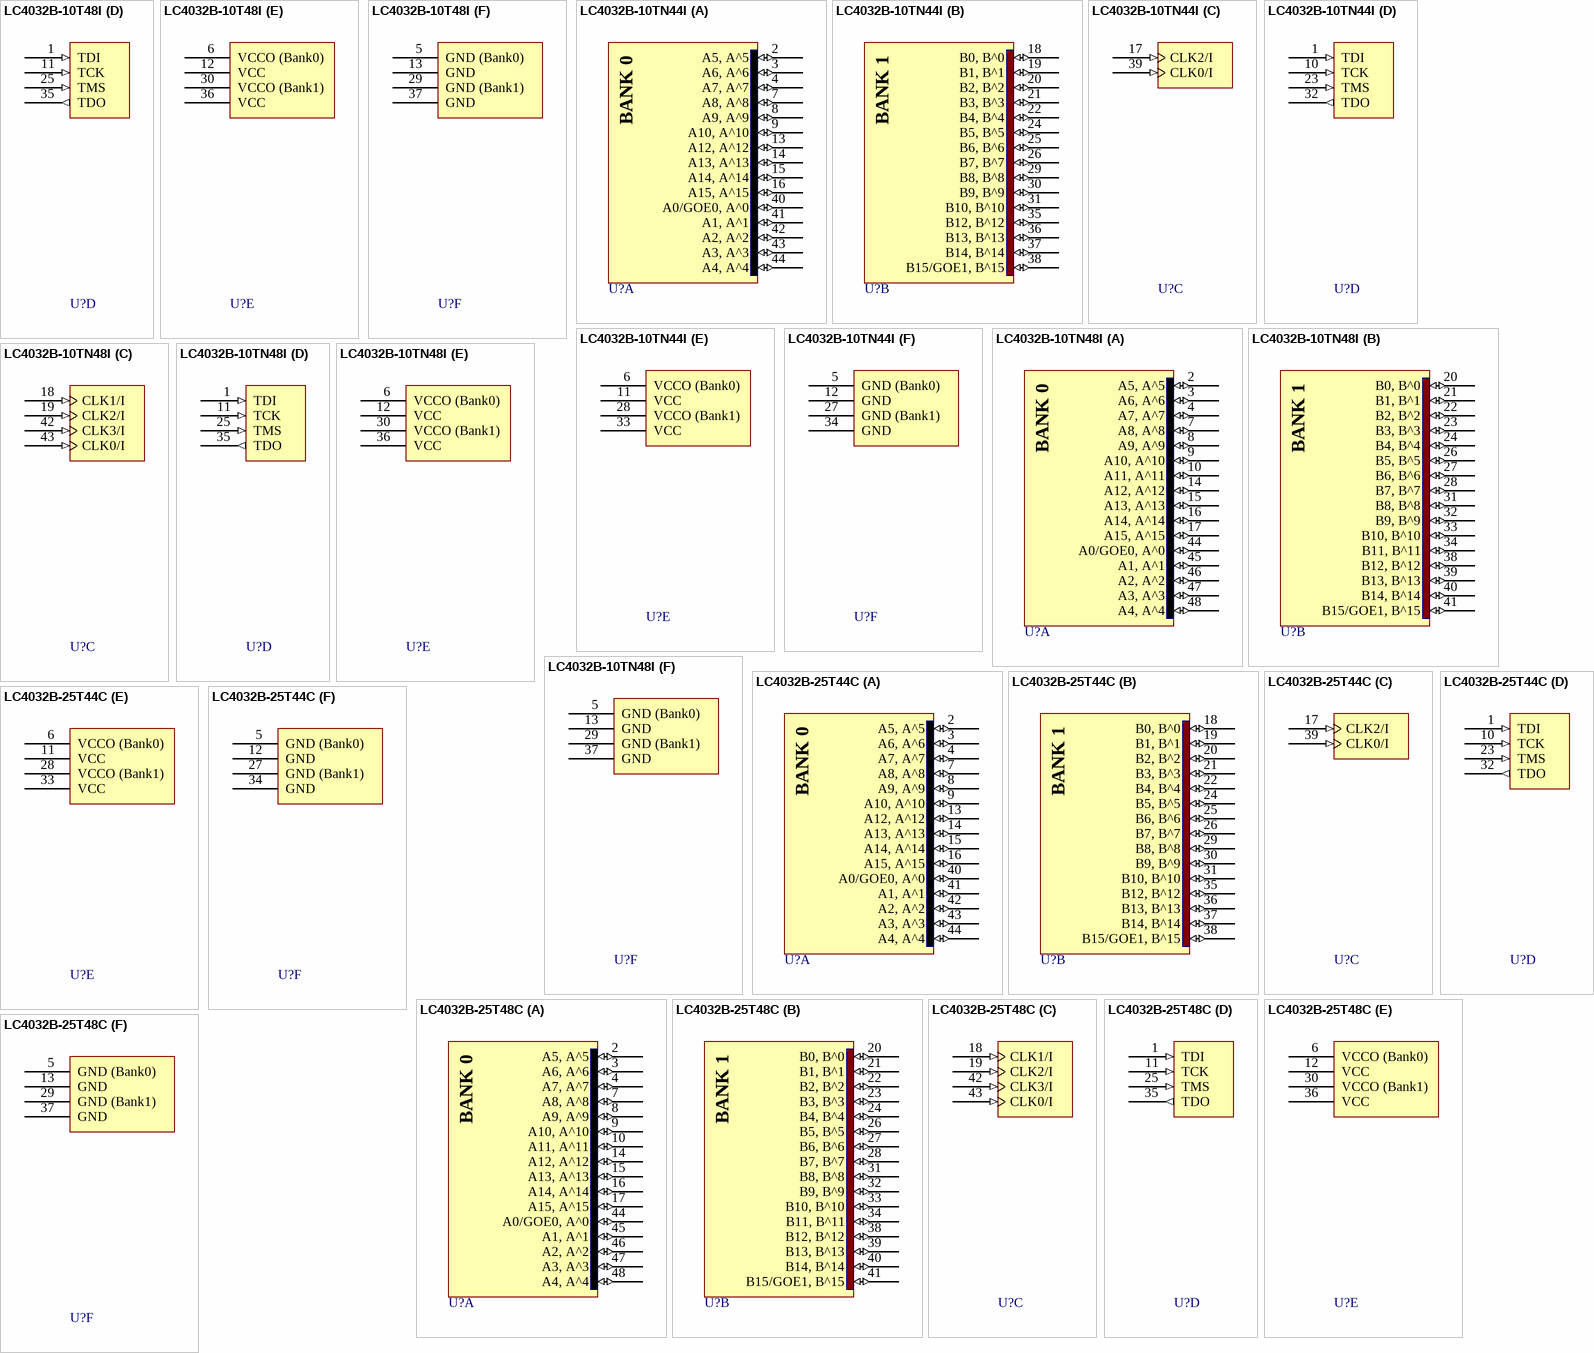
[diagram p2: symbols LC4032B-10T48I to LC4032B-25T48C]

## LC4032B-10T48I
designator U?
ispMACH 4032 SuperFAST High Density PLD, 2.5 V, 32 User I/Os, 48-Pin TQFP, 10 ns, Industrial Grade; DatasheetVersion: ver22.3, Mar-2007; PackageVersion: ver02.6, Nov-2010; PackageReference: TQFP48(1mm); PackageDescription: 48-Pin Thin Quad Flat Pack 1.0 mm Thick (TQFP48); ComponentLink1Description: Manufacturer URL; ComponentLink1URL: http://www.latticesemi.com/; ComponentLink2Description: Datasheet; ComponentLink2URL: http://www.latticesemi.com/dynamic/view_document.cfm?document_id=3646
footprint TQFP48(1mm)_N (Thin QFP, 48-Leads, Body 7x7mm, Pitch 0.5mm, IPC Medium Density)
footprint TQFP48(1mm)_L (Thin QFP, 48-Leads, Body 7x7mm, Pitch 0.5mm, IPC High Density)
footprint TQFP48(1mm)_M (Thin QFP, 48-Leads, Body 7x7mm, Pitch 0.5mm, IPC Low Density)
part A pins: 2 A5, A^5 (io) "General purpose I/O.", 3 A6, A^6 (io) "General purpose I/O.", 4 A7, A^7 (io) "General purpose I/O.", 7 A8, A^8 (io) "General purpose I/O.", 8 A9, A^9 (io) "General purpose I/O.", 9 A10, A^10 (io) "General purpose I/O.", 10 A11, A^11 (io) "General purpose I/O.", 14 A12, A^12 (io) "General purpose I/O.", 15 A13, A^13 (io) "General purpose I/O.", 16 A14, A^14 (io) "General purpose I/O.", 17 A15, A^15 (io) "General purpose I/O.", 44 A0/GOE0, A^0 (io) "Either Global Output Enable Input or general I/O.", 45 A1, A^1 (io) "General purpose I/O.", 46 A2, A^2 (io) "General purpose I/O.", 47 A3, A^3 (io) "General purpose I/O.", 48 A4, A^4 (io) "General purpose I/O."
part B pins: 20 B0, B^0 (io) "General purpose I/O.", 21 B1, B^1 (io) "General purpose I/O.", 22 B2, B^2 (io) "General purpose I/O.", 23 B3, B^3 (io) "General purpose I/O.", 24 B4, B^4 (io) "General purpose I/O.", 26 B5, B^5 (io) "General purpose I/O.", 27 B6, B^6 (io) "General purpose I/O.", 28 B7, B^7 (io) "General purpose I/O.", 31 B8, B^8 (io) "General purpose I/O.", 32 B9, B^9 (io) "General purpose I/O.", 33 B10, B^10 (io) "General purpose I/O.", 34 B11, B^11 (io) "General purpose I/O.", 38 B12, B^12 (io) "General purpose I/O.", 39 B13, B^13 (io) "General purpose I/O.", 40 B14, B^14 (io) "General purpose I/O.", 41 B15/GOE1, B^15 (io) "Either Global Output Enable Input or general I/O."
part C pins: 18 CLK1/I (in) "Either CLK input or input.", 19 CLK2/I (in) "Either CLK input or input.", 42 CLK3/I (in) "Either CLK input or input.", 43 CLK0/I (in) "Either CLK input or input."
part D pins: 1 TDI (in) "Test Data Input. Loads data into device using 1149.1 state machine.", 11 TCK (in) "Test Clock Input for 1149.1 state machine.", 25 TMS (in) "Test Mode Select Input to control 1149.1 state machine.", 35 TDO (out) "Test Data Output. Shifts data out of device using 1149.1."
part E pins: 6 VCCO (Bank0) (power) "Power supply pin for I/O bank.", 12 VCC (power) "Power supply for logic core and JTAG port.", 30 VCCO (Bank1) (power) "Power supply pin for I/O bank.", 36 VCC (power) "Power supply for logic core and JTAG port."
part F pins: 5 GND (Bank0) (power) "I/O Ground", 13 GND (power) "Ground", 29 GND (Bank1) (power) "I/O Ground", 37 GND (power) "Ground"
part A text: BANK 0
part B text: BANK 1

## LC4032B-10TN44I
designator U?
ispMACH 4032 SuperFAST High Density PLD, 2.5 V, 30 User I/Os, 44-Pin TQFP, 7.5 ns, Industrial Grade, Pb-Free; DatasheetVersion: ver22.3, Mar-2007; PackageVersion: ver01.2 Feb-2007; PackageReference: TQFP44(1mm); PackageDescription: 44-Pin Thin Quad Flat Pack 1.0 mm Thick (TQFP44); ComponentLink1Description: Manufacturer URL; ComponentLink1URL: http://www.latticesemi.com/; ComponentLink2Description: Datasheet; ComponentLink2URL: http://www.latticesemi.com/dynamic/view_document.cfm?document_id=3646
footprint TQFP44(1mm)_N (Thin QFP, 44-Leads, Body 10x10mm, Pitch 0.8mm, IPC Medium Density)
footprint TQFP44(1mm)_L (Thin QFP, 44-Leads, Body 10x10mm, Pitch 0.8mm, IPC High Density)
footprint TQFP44(1mm)_M (Thin QFP, 44-Leads, Body 10x10mm, Pitch 0.8mm, IPC Low Density)
part A pins: 2 A5, A^5 (io) "General purpose I/O.", 3 A6, A^6 (io) "General purpose I/O.", 4 A7, A^7 (io) "General purpose I/O.", 7 A8, A^8 (io) "General purpose I/O.", 8 A9, A^9 (io) "General purpose I/O.", 9 A10, A^10 (io) "General purpose I/O.", 13 A12, A^12 (io) "General purpose I/O.", 14 A13, A^13 (io) "General purpose I/O.", 15 A14, A^14 (io) "General purpose I/O.", 16 A15, A^15 (io) "General purpose I/O.", 40 A0/GOE0, A^0 (io) "Either Global Output Enable Input or general I/O.", 41 A1, A^1 (io) "General purpose I/O.", 42 A2, A^2 (io) "General purpose I/O.", 43 A3, A^3 (io) "General purpose I/O.", 44 A4, A^4 (io) "General purpose I/O."
part B pins: 18 B0, B^0 (io) "General purpose I/O.", 19 B1, B^1 (io) "General purpose I/O.", 20 B2, B^2 (io) "General purpose I/O.", 21 B3, B^3 (io) "General purpose I/O.", 22 B4, B^4 (io) "General purpose I/O.", 24 B5, B^5 (io) "General purpose I/O.", 25 B6, B^6 (io) "General purpose I/O.", 26 B7, B^7 (io) "General purpose I/O.", 29 B8, B^8 (io) "General purpose I/O.", 30 B9, B^9 (io) "General purpose I/O.", 31 B10, B^10 (io) "General purpose I/O.", 35 B12, B^12 (io) "General purpose I/O.", 36 B13, B^13 (io) "General purpose I/O.", 37 B14, B^14 (io) "General purpose I/O.", 38 B15/GOE1, B^15 (io) "Either Global Output Enable Input or general I/O."
part C pins: 17 CLK2/I (in) "Either CLK input or input.", 39 CLK0/I (in) "Either CLK input or input."
part D pins: 1 TDI (in) "Test Data Input. Loads data into device using 1149.1 state machine.", 10 TCK (in) "Test Clock Input for 1149.1 state machine.", 23 TMS (in) "Test Mode Select Input to control 1149.1 state machine.", 32 TDO (out) "Test Data Output. Shifts data out of device using 1149.1."
part E pins: 6 VCCO (Bank0) (power) "Power supply pin for I/O bank.", 11 VCC (power) "Power supply for logic core and JTAG port.", 28 VCCO (Bank1) (power) "Power supply pin for I/O bank.", 33 VCC (power) "Power supply for logic core and JTAG port."
part F pins: 5 GND (Bank0) (power) "I/O Ground", 12 GND (power) "Ground", 27 GND (Bank1) (power) "I/O Ground", 34 GND (power) "Ground"
part A text: BANK 0
part B text: BANK 1

## LC4032B-10TN48I
designator U?
ispMACH 4032 SuperFAST High Density PLD, 2.5 V, 32 User I/Os, 48-Pin TQFP, 10 ns, Industrial Grade, Pb-Free; DatasheetVersion: ver22.3, Mar-2007; PackageVersion: ver02.6, Nov-2010; PackageReference: TQFP48(1mm); PackageDescription: 48-Pin Thin Quad Flat Pack 1.0 mm Thick (TQFP48); ComponentLink1Description: Manufacturer URL; ComponentLink1URL: http://www.latticesemi.com/; ComponentLink2Description: Datasheet; ComponentLink2URL: http://www.latticesemi.com/dynamic/view_document.cfm?document_id=3646
footprint TQFP48(1mm)_N (Thin QFP, 48-Leads, Body 7x7mm, Pitch 0.5mm, IPC Medium Density)
footprint TQFP48(1mm)_L (Thin QFP, 48-Leads, Body 7x7mm, Pitch 0.5mm, IPC High Density)
footprint TQFP48(1mm)_M (Thin QFP, 48-Leads, Body 7x7mm, Pitch 0.5mm, IPC Low Density)
part A pins: 2 A5, A^5 (io) "General purpose I/O.", 3 A6, A^6 (io) "General purpose I/O.", 4 A7, A^7 (io) "General purpose I/O.", 7 A8, A^8 (io) "General purpose I/O.", 8 A9, A^9 (io) "General purpose I/O.", 9 A10, A^10 (io) "General purpose I/O.", 10 A11, A^11 (io) "General purpose I/O.", 14 A12, A^12 (io) "General purpose I/O.", 15 A13, A^13 (io) "General purpose I/O.", 16 A14, A^14 (io) "General purpose I/O.", 17 A15, A^15 (io) "General purpose I/O.", 44 A0/GOE0, A^0 (io) "Either Global Output Enable Input or general I/O.", 45 A1, A^1 (io) "General purpose I/O.", 46 A2, A^2 (io) "General purpose I/O.", 47 A3, A^3 (io) "General purpose I/O.", 48 A4, A^4 (io) "General purpose I/O."
part B pins: 20 B0, B^0 (io) "General purpose I/O.", 21 B1, B^1 (io) "General purpose I/O.", 22 B2, B^2 (io) "General purpose I/O.", 23 B3, B^3 (io) "General purpose I/O.", 24 B4, B^4 (io) "General purpose I/O.", 26 B5, B^5 (io) "General purpose I/O.", 27 B6, B^6 (io) "General purpose I/O.", 28 B7, B^7 (io) "General purpose I/O.", 31 B8, B^8 (io) "General purpose I/O.", 32 B9, B^9 (io) "General purpose I/O.", 33 B10, B^10 (io) "General purpose I/O.", 34 B11, B^11 (io) "General purpose I/O.", 38 B12, B^12 (io) "General purpose I/O.", 39 B13, B^13 (io) "General purpose I/O.", 40 B14, B^14 (io) "General purpose I/O.", 41 B15/GOE1, B^15 (io) "Either Global Output Enable Input or general I/O."
part C pins: 18 CLK1/I (in) "Either CLK input or input.", 19 CLK2/I (in) "Either CLK input or input.", 42 CLK3/I (in) "Either CLK input or input.", 43 CLK0/I (in) "Either CLK input or input."
part D pins: 1 TDI (in) "Test Data Input. Loads data into device using 1149.1 state machine.", 11 TCK (in) "Test Clock Input for 1149.1 state machine.", 25 TMS (in) "Test Mode Select Input to control 1149.1 state machine.", 35 TDO (out) "Test Data Output. Shifts data out of device using 1149.1."
part E pins: 6 VCCO (Bank0) (power) "Power supply pin for I/O bank.", 12 VCC (power) "Power supply for logic core and JTAG port.", 30 VCCO (Bank1) (power) "Power supply pin for I/O bank.", 36 VCC (power) "Power supply for logic core and JTAG port."
part F pins: 5 GND (Bank0) (power) "I/O Ground", 13 GND (power) "Ground", 29 GND (Bank1) (power) "I/O Ground", 37 GND (power) "Ground"
part A text: BANK 0
part B text: BANK 1

## LC4032B-25T44C
designator U?
ispMACH 4032 SuperFAST High Density PLD, 2.5 V, 30 User I/Os, 44-Pin TQFP, 2.5 ns, Commercial Grade; DatasheetVersion: ver22.3, Mar-2007; PackageVersion: ver01.2 Feb-2007; PackageReference: TQFP44(1mm); PackageDescription: 44-Pin Thin Quad Flat Pack 1.0 mm Thick (TQFP44); ComponentLink1Description: Manufacturer URL; ComponentLink1URL: http://www.latticesemi.com/; ComponentLink2Description: Datasheet; ComponentLink2URL: http://www.latticesemi.com/dynamic/view_document.cfm?document_id=3646
footprint TQFP44(1mm)_N (Thin QFP, 44-Leads, Body 10x10mm, Pitch 0.8mm, IPC Medium Density)
footprint TQFP44(1mm)_L (Thin QFP, 44-Leads, Body 10x10mm, Pitch 0.8mm, IPC High Density)
footprint TQFP44(1mm)_M (Thin QFP, 44-Leads, Body 10x10mm, Pitch 0.8mm, IPC Low Density)
part A pins: 2 A5, A^5 (io) "General purpose I/O.", 3 A6, A^6 (io) "General purpose I/O.", 4 A7, A^7 (io) "General purpose I/O.", 7 A8, A^8 (io) "General purpose I/O.", 8 A9, A^9 (io) "General purpose I/O.", 9 A10, A^10 (io) "General purpose I/O.", 13 A12, A^12 (io) "General purpose I/O.", 14 A13, A^13 (io) "General purpose I/O.", 15 A14, A^14 (io) "General purpose I/O.", 16 A15, A^15 (io) "General purpose I/O.", 40 A0/GOE0, A^0 (io) "Either Global Output Enable Input or general I/O.", 41 A1, A^1 (io) "General purpose I/O.", 42 A2, A^2 (io) "General purpose I/O.", 43 A3, A^3 (io) "General purpose I/O.", 44 A4, A^4 (io) "General purpose I/O."
part B pins: 18 B0, B^0 (io) "General purpose I/O.", 19 B1, B^1 (io) "General purpose I/O.", 20 B2, B^2 (io) "General purpose I/O.", 21 B3, B^3 (io) "General purpose I/O.", 22 B4, B^4 (io) "General purpose I/O.", 24 B5, B^5 (io) "General purpose I/O.", 25 B6, B^6 (io) "General purpose I/O.", 26 B7, B^7 (io) "General purpose I/O.", 29 B8, B^8 (io) "General purpose I/O.", 30 B9, B^9 (io) "General purpose I/O.", 31 B10, B^10 (io) "General purpose I/O.", 35 B12, B^12 (io) "General purpose I/O.", 36 B13, B^13 (io) "General purpose I/O.", 37 B14, B^14 (io) "General purpose I/O.", 38 B15/GOE1, B^15 (io) "Either Global Output Enable Input or general I/O."
part C pins: 17 CLK2/I (in) "Either CLK input or input.", 39 CLK0/I (in) "Either CLK input or input."
part D pins: 1 TDI (in) "Test Data Input. Loads data into device using 1149.1 state machine.", 10 TCK (in) "Test Clock Input for 1149.1 state machine.", 23 TMS (in) "Test Mode Select Input to control 1149.1 state machine.", 32 TDO (out) "Test Data Output. Shifts data out of device using 1149.1."
part E pins: 6 VCCO (Bank0) (power) "Power supply pin for I/O bank.", 11 VCC (power) "Power supply for logic core and JTAG port.", 28 VCCO (Bank1) (power) "Power supply pin for I/O bank.", 33 VCC (power) "Power supply for logic core and JTAG port."
part F pins: 5 GND (Bank0) (power) "I/O Ground", 12 GND (power) "Ground", 27 GND (Bank1) (power) "I/O Ground", 34 GND (power) "Ground"
part A text: BANK 0
part B text: BANK 1

## LC4032B-25T48C
designator U?
ispMACH 4032 SuperFAST High Density PLD, 2.5 V, 32 User I/Os, 48-Pin TQFP, 2.5 ns, Commercial Grade; DatasheetVersion: ver22.3, Mar-2007; PackageVersion: ver02.6, Nov-2010; PackageReference: TQFP48(1mm); PackageDescription: 48-Pin Thin Quad Flat Pack 1.0 mm Thick (TQFP48); ComponentLink1Description: Manufacturer URL; ComponentLink1URL: http://www.latticesemi.com/; ComponentLink2Description: Datasheet; ComponentLink2URL: http://www.latticesemi.com/dynamic/view_document.cfm?document_id=3646
footprint TQFP48(1mm)_N (Thin QFP, 48-Leads, Body 7x7mm, Pitch 0.5mm, IPC Medium Density)
footprint TQFP48(1mm)_L (Thin QFP, 48-Leads, Body 7x7mm, Pitch 0.5mm, IPC High Density)
footprint TQFP48(1mm)_M (Thin QFP, 48-Leads, Body 7x7mm, Pitch 0.5mm, IPC Low Density)
part A pins: 2 A5, A^5 (io) "General purpose I/O.", 3 A6, A^6 (io) "General purpose I/O.", 4 A7, A^7 (io) "General purpose I/O.", 7 A8, A^8 (io) "General purpose I/O.", 8 A9, A^9 (io) "General purpose I/O.", 9 A10, A^10 (io) "General purpose I/O.", 10 A11, A^11 (io) "General purpose I/O.", 14 A12, A^12 (io) "General purpose I/O.", 15 A13, A^13 (io) "General purpose I/O.", 16 A14, A^14 (io) "General purpose I/O.", 17 A15, A^15 (io) "General purpose I/O.", 44 A0/GOE0, A^0 (io) "Either Global Output Enable Input or general I/O.", 45 A1, A^1 (io) "General purpose I/O.", 46 A2, A^2 (io) "General purpose I/O.", 47 A3, A^3 (io) "General purpose I/O.", 48 A4, A^4 (io) "General purpose I/O."
part B pins: 20 B0, B^0 (io) "General purpose I/O.", 21 B1, B^1 (io) "General purpose I/O.", 22 B2, B^2 (io) "General purpose I/O.", 23 B3, B^3 (io) "General purpose I/O.", 24 B4, B^4 (io) "General purpose I/O.", 26 B5, B^5 (io) "General purpose I/O.", 27 B6, B^6 (io) "General purpose I/O.", 28 B7, B^7 (io) "General purpose I/O.", 31 B8, B^8 (io) "General purpose I/O.", 32 B9, B^9 (io) "General purpose I/O.", 33 B10, B^10 (io) "General purpose I/O.", 34 B11, B^11 (io) "General purpose I/O.", 38 B12, B^12 (io) "General purpose I/O.", 39 B13, B^13 (io) "General purpose I/O.", 40 B14, B^14 (io) "General purpose I/O.", 41 B15/GOE1, B^15 (io) "Either Global Output Enable Input or general I/O."
part C pins: 18 CLK1/I (in) "Either CLK input or input.", 19 CLK2/I (in) "Either CLK input or input.", 42 CLK3/I (in) "Either CLK input or input.", 43 CLK0/I (in) "Either CLK input or input."
part D pins: 1 TDI (in) "Test Data Input. Loads data into device using 1149.1 state machine.", 11 TCK (in) "Test Clock Input for 1149.1 state machine.", 25 TMS (in) "Test Mode Select Input to control 1149.1 state machine.", 35 TDO (out) "Test Data Output. Shifts data out of device using 1149.1."
part E pins: 6 VCCO (Bank0) (power) "Power supply pin for I/O bank.", 12 VCC (power) "Power supply for logic core and JTAG port.", 30 VCCO (Bank1) (power) "Power supply pin for I/O bank.", 36 VCC (power) "Power supply for logic core and JTAG port."
part F pins: 5 GND (Bank0) (power) "I/O Ground", 13 GND (power) "Ground", 29 GND (Bank1) (power) "I/O Ground", 37 GND (power) "Ground"
part A text: BANK 0
part B text: BANK 1

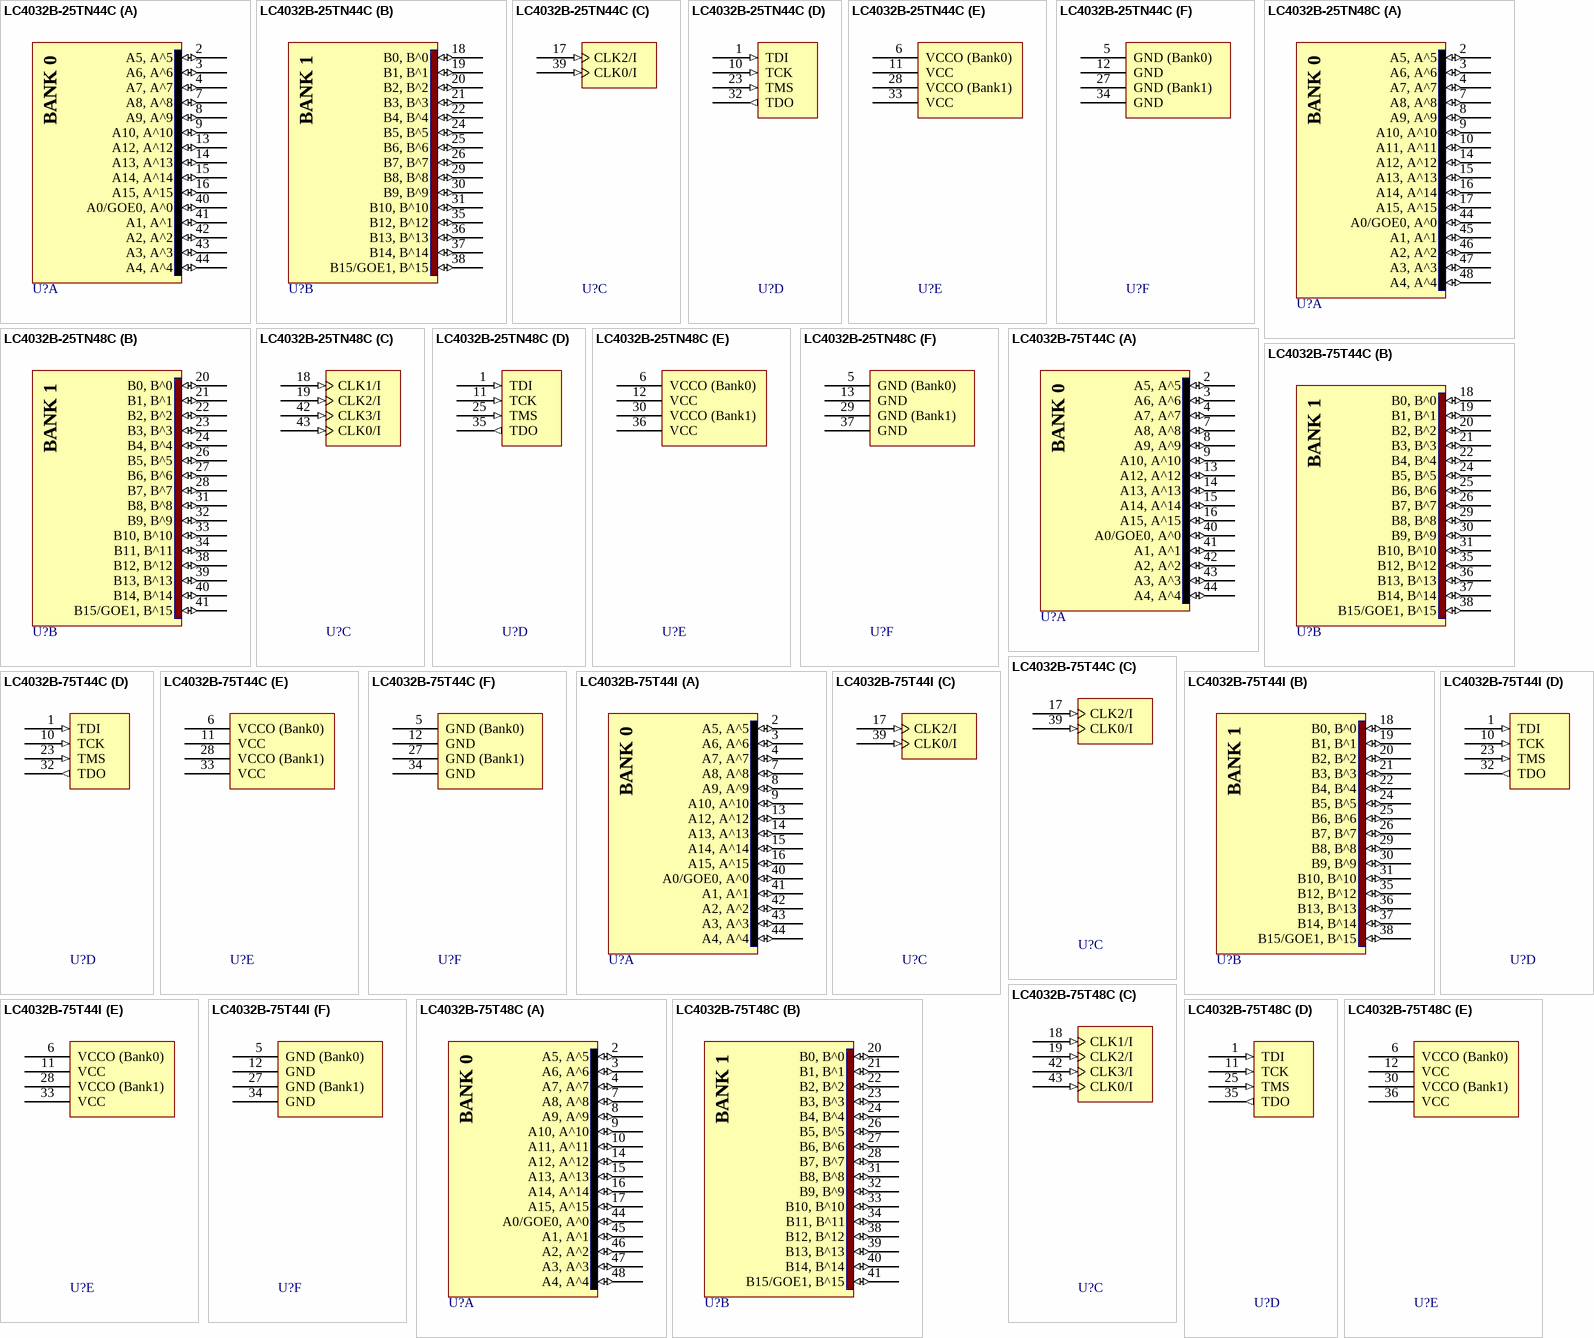
[diagram p3: symbols LC4032B-25TN44C to LC4032B-75T48C]

## LC4032B-25TN44C
designator U?
ispMACH 4032 SuperFAST High Density PLD, 2.5 V, 30 User I/Os, 44-Pin TQFP, 2.5 ns, Commercial Grade, Pb-Free; DatasheetVersion: ver22.3, Mar-2007; PackageVersion: ver01.2 Feb-2007; PackageReference: TQFP44(1mm); PackageDescription: 44-Pin Thin Quad Flat Pack 1.0 mm Thick (TQFP44); ComponentLink1Description: Manufacturer URL; ComponentLink1URL: http://www.latticesemi.com/; ComponentLink2Description: Datasheet; ComponentLink2URL: http://www.latticesemi.com/dynamic/view_document.cfm?document_id=3646
footprint TQFP44(1mm)_N (Thin QFP, 44-Leads, Body 10x10mm, Pitch 0.8mm, IPC Medium Density)
footprint TQFP44(1mm)_L (Thin QFP, 44-Leads, Body 10x10mm, Pitch 0.8mm, IPC High Density)
footprint TQFP44(1mm)_M (Thin QFP, 44-Leads, Body 10x10mm, Pitch 0.8mm, IPC Low Density)
part A pins: 2 A5, A^5 (io) "General purpose I/O.", 3 A6, A^6 (io) "General purpose I/O.", 4 A7, A^7 (io) "General purpose I/O.", 7 A8, A^8 (io) "General purpose I/O.", 8 A9, A^9 (io) "General purpose I/O.", 9 A10, A^10 (io) "General purpose I/O.", 13 A12, A^12 (io) "General purpose I/O.", 14 A13, A^13 (io) "General purpose I/O.", 15 A14, A^14 (io) "General purpose I/O.", 16 A15, A^15 (io) "General purpose I/O.", 40 A0/GOE0, A^0 (io) "Either Global Output Enable Input or general I/O.", 41 A1, A^1 (io) "General purpose I/O.", 42 A2, A^2 (io) "General purpose I/O.", 43 A3, A^3 (io) "General purpose I/O.", 44 A4, A^4 (io) "General purpose I/O."
part B pins: 18 B0, B^0 (io) "General purpose I/O.", 19 B1, B^1 (io) "General purpose I/O.", 20 B2, B^2 (io) "General purpose I/O.", 21 B3, B^3 (io) "General purpose I/O.", 22 B4, B^4 (io) "General purpose I/O.", 24 B5, B^5 (io) "General purpose I/O.", 25 B6, B^6 (io) "General purpose I/O.", 26 B7, B^7 (io) "General purpose I/O.", 29 B8, B^8 (io) "General purpose I/O.", 30 B9, B^9 (io) "General purpose I/O.", 31 B10, B^10 (io) "General purpose I/O.", 35 B12, B^12 (io) "General purpose I/O.", 36 B13, B^13 (io) "General purpose I/O.", 37 B14, B^14 (io) "General purpose I/O.", 38 B15/GOE1, B^15 (io) "Either Global Output Enable Input or general I/O."
part C pins: 17 CLK2/I (in) "Either CLK input or input.", 39 CLK0/I (in) "Either CLK input or input."
part D pins: 1 TDI (in) "Test Data Input. Loads data into device using 1149.1 state machine.", 10 TCK (in) "Test Clock Input for 1149.1 state machine.", 23 TMS (in) "Test Mode Select Input to control 1149.1 state machine.", 32 TDO (out) "Test Data Output. Shifts data out of device using 1149.1."
part E pins: 6 VCCO (Bank0) (power) "Power supply pin for I/O bank.", 11 VCC (power) "Power supply for logic core and JTAG port.", 28 VCCO (Bank1) (power) "Power supply pin for I/O bank.", 33 VCC (power) "Power supply for logic core and JTAG port."
part F pins: 5 GND (Bank0) (power) "I/O Ground", 12 GND (power) "Ground", 27 GND (Bank1) (power) "I/O Ground", 34 GND (power) "Ground"
part A text: BANK 0
part B text: BANK 1

## LC4032B-25TN48C
designator U?
ispMACH 4032 SuperFAST High Density PLD, 2.5 V, 32 User I/Os, 48-Pin TQFP, 2.5 ns, Commercial Grade, Pb-Free; DatasheetVersion: ver22.3, Mar-2007; PackageVersion: ver02.6, Nov-2010; PackageReference: TQFP48(1mm); PackageDescription: 48-Pin Thin Quad Flat Pack 1.0 mm Thick (TQFP48); ComponentLink1Description: Manufacturer URL; ComponentLink1URL: http://www.latticesemi.com/; ComponentLink2Description: Datasheet; ComponentLink2URL: http://www.latticesemi.com/dynamic/view_document.cfm?document_id=3646
footprint TQFP48(1mm)_N (Thin QFP, 48-Leads, Body 7x7mm, Pitch 0.5mm, IPC Medium Density)
footprint TQFP48(1mm)_L (Thin QFP, 48-Leads, Body 7x7mm, Pitch 0.5mm, IPC High Density)
footprint TQFP48(1mm)_M (Thin QFP, 48-Leads, Body 7x7mm, Pitch 0.5mm, IPC Low Density)
part A pins: 2 A5, A^5 (io) "General purpose I/O.", 3 A6, A^6 (io) "General purpose I/O.", 4 A7, A^7 (io) "General purpose I/O.", 7 A8, A^8 (io) "General purpose I/O.", 8 A9, A^9 (io) "General purpose I/O.", 9 A10, A^10 (io) "General purpose I/O.", 10 A11, A^11 (io) "General purpose I/O.", 14 A12, A^12 (io) "General purpose I/O.", 15 A13, A^13 (io) "General purpose I/O.", 16 A14, A^14 (io) "General purpose I/O.", 17 A15, A^15 (io) "General purpose I/O.", 44 A0/GOE0, A^0 (io) "Either Global Output Enable Input or general I/O.", 45 A1, A^1 (io) "General purpose I/O.", 46 A2, A^2 (io) "General purpose I/O.", 47 A3, A^3 (io) "General purpose I/O.", 48 A4, A^4 (io) "General purpose I/O."
part B pins: 20 B0, B^0 (io) "General purpose I/O.", 21 B1, B^1 (io) "General purpose I/O.", 22 B2, B^2 (io) "General purpose I/O.", 23 B3, B^3 (io) "General purpose I/O.", 24 B4, B^4 (io) "General purpose I/O.", 26 B5, B^5 (io) "General purpose I/O.", 27 B6, B^6 (io) "General purpose I/O.", 28 B7, B^7 (io) "General purpose I/O.", 31 B8, B^8 (io) "General purpose I/O.", 32 B9, B^9 (io) "General purpose I/O.", 33 B10, B^10 (io) "General purpose I/O.", 34 B11, B^11 (io) "General purpose I/O.", 38 B12, B^12 (io) "General purpose I/O.", 39 B13, B^13 (io) "General purpose I/O.", 40 B14, B^14 (io) "General purpose I/O.", 41 B15/GOE1, B^15 (io) "Either Global Output Enable Input or general I/O."
part C pins: 18 CLK1/I (in) "Either CLK input or input.", 19 CLK2/I (in) "Either CLK input or input.", 42 CLK3/I (in) "Either CLK input or input.", 43 CLK0/I (in) "Either CLK input or input."
part D pins: 1 TDI (in) "Test Data Input. Loads data into device using 1149.1 state machine.", 11 TCK (in) "Test Clock Input for 1149.1 state machine.", 25 TMS (in) "Test Mode Select Input to control 1149.1 state machine.", 35 TDO (out) "Test Data Output. Shifts data out of device using 1149.1."
part E pins: 6 VCCO (Bank0) (power) "Power supply pin for I/O bank.", 12 VCC (power) "Power supply for logic core and JTAG port.", 30 VCCO (Bank1) (power) "Power supply pin for I/O bank.", 36 VCC (power) "Power supply for logic core and JTAG port."
part F pins: 5 GND (Bank0) (power) "I/O Ground", 13 GND (power) "Ground", 29 GND (Bank1) (power) "I/O Ground", 37 GND (power) "Ground"
part A text: BANK 0
part B text: BANK 1